# Altium footprint library ALTIUM_VICOR_FASTRAK.PcbLib: 6 footprints
Each footprint in its own frame and in the unit in brackets; x right, y up, seen from the top. Pads: shape width x height; smd on the part's side, far side on the other; paste and mask are expansions set on the pad; w line width, h text height; cw(c..) or ccw(c..) is an arc to the next point about the centre after c.
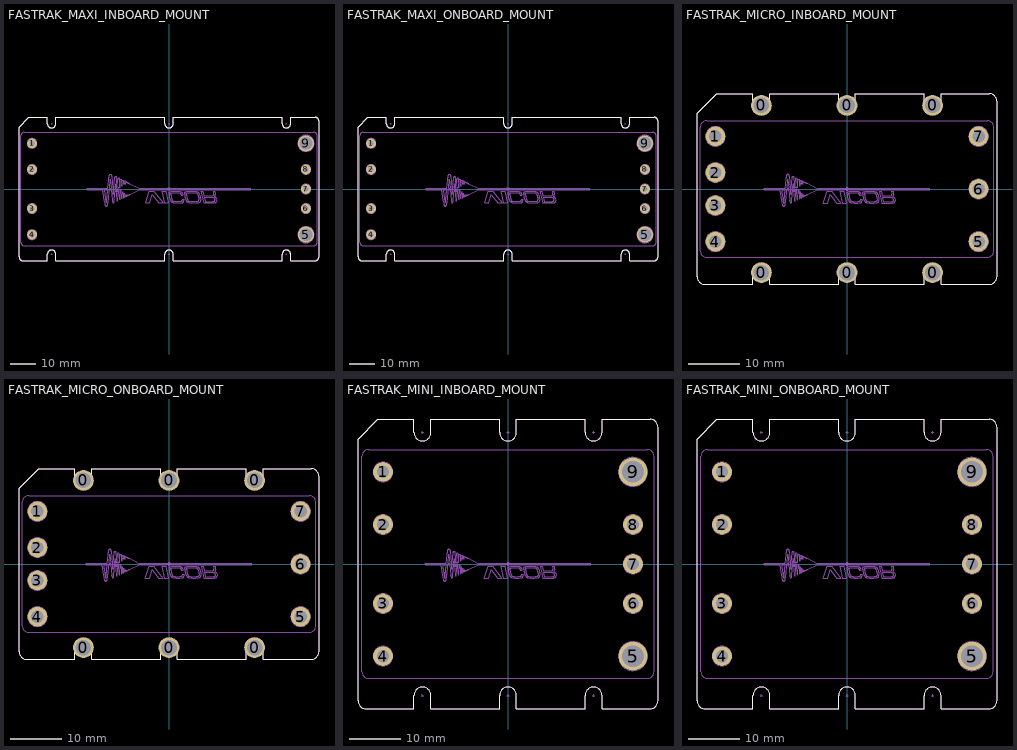
[diagram p0: the footprints below, top view; thin cyan lines are the x and y axes]

## FASTRAK_MAXI_INBOARD_MOUNT [mil]
pads (9):
  round 150 hole 82: 1(-2100,700) 2(-2100,300) 3(-2100,-300) 4(-2100,-700) 6(2100,-300) 7(2100,0) 8(2100,300)
  round 250 hole 194: 5(2100,-700) 9(2100,700)
Top Overlay:
  lines w8: -2300,-1040 ccw(c-2240,-1040) -2240,-1100 -1864.5,-1100 -1864.5,-1000 cw(c-1800,-1000) -1735.5,-1000 -1735.5,-1100 -64.5,-1100 -64.5,-1000 cw(c0,-1000) 64.5,-1000 64.5,-1100 1735.5,-1100 1735.5,-1000 cw(c1800,-1000) 1864.5,-1000 1864.5,-1100 2240,-1100 ccw(c2240,-1040) 2300,-1040 2300,1040 ccw(c2240,1040) 2240,1100 1864.5,1100 1864.5,1000 cw(c1800,1000) 1735.5,1000 1735.5,1100 64.5,1100 64.5,1000 cw(c0,1000) -64.5,1000 -64.5,1100 -1735.5,1100 -1735.5,1000 cw(c-1800,1000) -1864.5,1000 -1864.5,1100 -2150,1100 -2300,950 -2300,-1040
Mechanical 1:
  drawing of 1242 lines, arcs and shapes, not listed
Mechanical 2:
  circle w1: c-2100,700 r40
  circle w1: c-2100,300 r40
  circle w1: c-2100,-300 r40
  circle w1: c-2100,-700 r40
  circle w1: c-2100,-700 r47
  circle w1: c-2100,-300 r47
  circle w1: c-2100,300 r47
  circle w1: c-2100,700 r47
  circle w1: c-2100,-700 r75
  circle w1: c-2100,-300 r75
  circle w1: c-2100,300 r75
  circle w1: c-2100,700 r75
  circle w1: c2100,700 r90
  circle w1: c2100,-700 r90
  circle w1: c2100,300 r40
  circle w1: c2100,0 r40
  circle w1: c2100,-300 r40
  circle w1: c2100,-700 r97
  circle w1: c2100,700 r97
  circle w1: c2100,-300 r47
  circle w1: c2100,0 r47
  circle w1: c2100,300 r47
  circle w1: c2100,-700 r125
  circle w1: c2100,700 r125
  circle w1: c2100,-300 r75
  circle w1: c2100,0 r75
  circle w1: c2100,300 r75
Drill Drawing:
  circle w3: c-2100,700 r47
  circle w3: c-2100,300 r47
  circle w3: c-2100,-300 r47
  circle w3: c-2100,-700 r47
  circle w3: c2100,300 r47
  circle w3: c2100,0 r47
  circle w3: c2100,-300 r47
  circle w3: c2100,700 r97
  circle w3: c2100,-700 r97
  lines w3: -1871,-835 -1853,-835 ; -1871,835 -1853,835 ; -1862,-844 -1862,-826 ; -1862,826 -1862,844 ; 1853,-835 1871,-835 ; 1853,835 1871,835 ; 1862,-844 1862,-826 ; 1862,826 1862,844 ; -1922,-835 ccw(c-1862,-835) -1862,-895 1862,-895 ccw(c1862,-835) 1922,-835 1922,835 ccw(c1862,835) 1862,895 -1862,895 ccw(c-1862,835) -1922,835 -1922,-835

## FASTRAK_MAXI_ONBOARD_MOUNT [mil]
pads (9):
  round 150 hole 82: 1(-2100,700) 2(-2100,300) 3(-2100,-300) 4(-2100,-700) 6(2100,-300) 7(2100,0) 8(2100,300)
  round 250 hole 194: 5(2100,-700) 9(2100,700)
Top Overlay:
  lines w8: -2300,-1040 ccw(c-2240,-1040) -2240,-1100 -1864.5,-1100 -1864.5,-1000 cw(c-1800,-1000) -1735.5,-1000 -1735.5,-1100 -64.5,-1100 -64.5,-1000 cw(c0,-1000) 64.5,-1000 64.5,-1100 1735.5,-1100 1735.5,-1000 cw(c1800,-1000) 1864.5,-1000 1864.5,-1100 2240,-1100 ccw(c2240,-1040) 2300,-1040 2300,1040 ccw(c2240,1040) 2240,1100 1864.5,1100 1864.5,1000 cw(c1800,1000) 1735.5,1000 1735.5,1100 64.5,1100 64.5,1000 cw(c0,1000) -64.5,1000 -64.5,1100 -1735.5,1100 -1735.5,1000 cw(c-1800,1000) -1864.5,1000 -1864.5,1100 -2150,1100 -2300,950 -2300,-1040
Mechanical 1:
  drawing of 1242 lines, arcs and shapes, not listed
Mechanical 2:
  circle w1: c-2100,700 r40
  circle w1: c-2100,300 r40
  circle w1: c-2100,-300 r40
  circle w1: c-2100,-700 r40
  circle w1: c-2100,-700 r47
  circle w1: c-2100,-300 r47
  circle w1: c-2100,300 r47
  circle w1: c-2100,700 r47
  circle w1: c-2100,-700 r75
  circle w1: c-2100,-300 r75
  circle w1: c-2100,300 r75
  circle w1: c-2100,700 r75
  circle w1: c2100,700 r90
  circle w1: c2100,-700 r90
  circle w1: c2100,300 r40
  circle w1: c2100,0 r40
  circle w1: c2100,-300 r40
  circle w1: c2100,-700 r97
  circle w1: c2100,700 r97
  circle w1: c2100,-300 r47
  circle w1: c2100,0 r47
  circle w1: c2100,300 r47
  circle w1: c2100,-700 r125
  circle w1: c2100,700 r125
  circle w1: c2100,-300 r75
  circle w1: c2100,0 r75
  circle w1: c2100,300 r75
Drill Drawing:
  circle w3: c-2100,700 r47
  circle w3: c-2100,300 r47
  circle w3: c-2100,-300 r47
  circle w3: c-2100,-700 r47
  circle w3: c2100,300 r47
  circle w3: c2100,0 r47
  circle w3: c2100,-300 r47
  circle w3: c2100,700 r97
  circle w3: c2100,-700 r97

## FASTRAK_MICRO_INBOARD_MOUNT [mm]
pads (13):
  round 4 hole 3: 0(-16.51,-16.129) 0(-16.51,16.129) 0(0,-16.129) 0(0,16.129) 0(16.51,-16.129) 0(16.51,16.129)
  round 3.81 hole 2.388: 1(-25.4,10.16) 2(-25.4,3.175) 3(-25.4,-3.175) 4(-25.4,-10.16) 5(25.4,-10.16) 6(25.4,0) 7(25.4,10.16)
Top Overlay:
  lines w0.203: -28.956,-16.891 ccw(c-27.432,-16.891) -27.432,-18.415 -18.148,-18.415 -18.148,-16.129 cw(c-16.51,-16.129) -14.872,-16.129 -14.872,-18.415 -1.638,-18.415 -1.638,-16.129 cw(c0,-16.129) 1.638,-16.129 1.638,-18.415 14.872,-18.415 14.872,-16.129 cw(c16.51,-16.129) 18.148,-16.129 18.148,-18.415 27.432,-18.415 ccw(c27.432,-16.891) 28.956,-16.891 28.956,16.891 ccw(c27.432,16.891) 27.432,18.415 18.148,18.415 18.148,16.129 cw(c16.51,16.129) 14.872,16.129 14.872,18.415 1.638,18.415 1.638,16.129 cw(c0,16.129) -1.638,16.129 -1.638,18.415 -14.872,18.415 -14.872,16.129 cw(c-16.51,16.129) -18.148,16.129 -18.148,18.415 -25.146,18.415 -28.956,14.605 -28.956,-16.891
Mechanical 1:
  drawing of 1232 lines, arcs and shapes, not listed
Mechanical 2:
  circle w0.076: c-25.4,-10.16 r1.194
  circle w0.076: c-25.4,-3.175 r1.194
  circle w0.076: c-25.4,3.175 r1.194
  circle w0.076: c-25.4,10.16 r1.194
  circle w0.076: c-25.4,10.16 r1.905
  circle w0.076: c-25.4,3.175 r1.905
  circle w0.076: c-25.4,-3.175 r1.905
  circle w0.076: c-25.4,-10.16 r1.905
  circle w0.076: c-25.4,-3.175 r1.016
  circle w0.076: c-25.4,-10.16 r1.016
  circle w0.076: c-25.4,3.175 r1.016
  circle w0.076: c-25.4,10.16 r1.016
  circle w0.076: c25.4,-10.16 r1.194
  circle w0.076: c25.4,0 r1.194
  circle w0.076: c25.4,10.16 r1.194
  circle w0.076: c25.4,-10.16 r1.905
  circle w0.076: c25.4,0 r1.905
  circle w0.076: c25.4,10.16 r1.905
  circle w0.076: c25.4,-10.16 r1.016
  circle w0.076: c25.4,0 r1.016
  circle w0.076: c25.4,10.16 r1.016
Drill Drawing:
  circle w0.025: c25.4,10.16 r1.194
  circle w0.025: c25.4,0 r1.194
  circle w0.025: c25.4,-10.16 r1.194
  circle w0.025: c-25.4,10.16 r1.194
  circle w0.025: c-25.4,3.175 r1.194
  circle w0.025: c-25.4,-3.175 r1.194
  circle w0.025: c-25.4,-10.16 r1.194
  lines w0.025: -20.726,-12.319 -20.269,-12.319 ; -20.726,12.319 -20.269,12.319 ; -20.498,-12.548 -20.498,-12.09 ; -20.498,12.09 -20.498,12.548 ; 20.269,-12.319 20.726,-12.319 ; 20.269,12.319 20.726,12.319 ; 20.498,-12.548 20.498,-12.09 ; 20.498,12.09 20.498,12.548 ; -22.022,-12.319 ccw(c-20.498,-12.319) -20.498,-13.843 20.498,-13.843 ccw(c20.498,-12.319) 22.022,-12.319 22.022,12.319 ccw(c20.498,12.319) 20.498,13.843 -20.498,13.843 ccw(c-20.498,12.319) -22.022,12.319 -22.022,-12.319

## FASTRAK_MICRO_ONBOARD_MOUNT [mm]
pads (13):
  round 4 hole 3: 0(-16.51,-16.129) 0(-16.51,16.129) 0(0,-16.129) 0(0,16.129) 0(16.51,-16.129) 0(16.51,16.129)
  round 3.81 hole 2.388: 1(-25.4,10.16) 2(-25.4,3.175) 3(-25.4,-3.175) 4(-25.4,-10.16) 5(25.4,-10.16) 6(25.4,0) 7(25.4,10.16)
Top Overlay:
  lines w0.203: -28.956,-16.891 ccw(c-27.432,-16.891) -27.432,-18.415 -18.148,-18.415 -18.148,-16.129 cw(c-16.51,-16.129) -14.872,-16.129 -14.872,-18.415 -1.638,-18.415 -1.638,-16.129 cw(c0,-16.129) 1.638,-16.129 1.638,-18.415 14.872,-18.415 14.872,-16.129 cw(c16.51,-16.129) 18.148,-16.129 18.148,-18.415 27.432,-18.415 ccw(c27.432,-16.891) 28.956,-16.891 28.956,16.891 ccw(c27.432,16.891) 27.432,18.415 18.148,18.415 18.148,16.129 cw(c16.51,16.129) 14.872,16.129 14.872,18.415 1.638,18.415 1.638,16.129 cw(c0,16.129) -1.638,16.129 -1.638,18.415 -14.872,18.415 -14.872,16.129 cw(c-16.51,16.129) -18.148,16.129 -18.148,18.415 -25.146,18.415 -28.956,14.605 -28.956,-16.891
Mechanical 1:
  drawing of 1232 lines, arcs and shapes, not listed
Mechanical 2:
  circle w0.076: c25.4,10.16 r1.016
  circle w0.076: c25.4,0 r1.016
  circle w0.076: c25.4,-10.16 r1.016
  circle w0.076: c25.4,10.16 r1.905
  circle w0.076: c25.4,0 r1.905
  circle w0.076: c25.4,-10.16 r1.905
  circle w0.076: c25.4,10.16 r1.194
  circle w0.076: c25.4,0 r1.194
  circle w0.076: c25.4,-10.16 r1.194
  circle w0.076: c-25.4,10.16 r1.016
  circle w0.076: c-25.4,3.175 r1.016
  circle w0.076: c-25.4,-10.16 r1.016
  circle w0.076: c-25.4,-3.175 r1.016
  circle w0.076: c-25.4,-10.16 r1.905
  circle w0.076: c-25.4,-3.175 r1.905
  circle w0.076: c-25.4,3.175 r1.905
  circle w0.076: c-25.4,10.16 r1.905
  circle w0.076: c-25.4,10.16 r1.194
  circle w0.076: c-25.4,3.175 r1.194
  circle w0.076: c-25.4,-3.175 r1.194
  circle w0.076: c-25.4,-10.16 r1.194
Drill Drawing:
  circle w0.025: c-25.4,-10.16 r1.194
  circle w0.025: c-25.4,-3.175 r1.194
  circle w0.025: c-25.4,3.175 r1.194
  circle w0.025: c-25.4,10.16 r1.194
  circle w0.025: c25.4,-10.16 r1.194
  circle w0.025: c25.4,0 r1.194
  circle w0.025: c25.4,10.16 r1.194

## FASTRAK_MINI_INBOARD_MOUNT [mil]
pads (9):
  round 150 / inner round 60 / far side round 60 hole 94: 1(-950,700) 2(-950,300) 3(-950,-300) 4(-950,-700) 6(950,-300) 7(950,0) 8(950,300)
  round 220 hole 164: 5(950,-700) 9(950,700)
Top Overlay:
  lines w8: -1140,-1040 ccw(c-1080,-1040) -1080,-1100 -714.5,-1100 -714.5,-1000 cw(c-650,-1000) -585.5,-1000 -585.5,-1100 -64.5,-1100 -64.5,-1000 cw(c0,-1000) 64.5,-1000 64.5,-1100 585.5,-1100 585.5,-1000 cw(c650,-1000) 714.5,-1000 714.5,-1100 1080,-1100 ccw(c1080,-1040) 1140,-1040 1140,1040 ccw(c1080,1040) 1080,1100 714.5,1100 714.5,1000 cw(c650,1000) 585.5,1000 585.5,1100 64.5,1100 64.5,1000 cw(c0,1000) -64.5,1000 -64.5,1100 -585.5,1100 -585.5,1000 cw(c-650,1000) -714.5,1000 -714.5,1100 -990,1100 -1140,950 -1140,-1040
Mechanical 1:
  drawing of 1242 lines, arcs and shapes, not listed
Mechanical 2:
  circle w3: c-950,700 r40
  circle w3: c-950,300 r40
  circle w3: c-950,-300 r40
  circle w3: c-950,-700 r40
  circle w3: c-950,-700 r47
  circle w3: c-950,-300 r47
  circle w3: c-950,300 r47
  circle w3: c-950,700 r47
  circle w3: c-950,-700 r75
  circle w3: c-950,-300 r75
  circle w3: c-950,300 r75
  circle w3: c-950,700 r75
  circle w3: c950,-700 r75
  circle w3: c950,700 r75
  circle w3: c950,700 r82
  circle w3: c950,-700 r82
  circle w3: c950,700 r110
  circle w3: c950,-700 r110
  circle w3: c950,-300 r75
  circle w3: c950,0 r75
  circle w3: c950,300 r75
  circle w3: c950,300 r40
  circle w3: c950,0 r40
  circle w3: c950,-300 r40
  circle w3: c950,-300 r47
  circle w3: c950,0 r47
  circle w3: c950,300 r47
Drill Drawing:
  circle w3: c950,300 r47
  circle w3: c950,0 r47
  circle w3: c950,-300 r47
  circle w3: c950,-700 r82
  circle w3: c950,700 r82
  circle w3: c-950,700 r47
  circle w3: c-950,300 r47
  circle w3: c-950,-300 r47
  circle w3: c-950,-700 r47
  lines w3: -736.5,-835 -718.5,-835 ; -736.5,835 -718.5,835 ; -727.5,-844 -727.5,-826 ; -727.5,826 -727.5,844 ; 718.5,-835 736.5,-835 ; 718.5,835 736.5,835 ; 727.5,-844 727.5,-826 ; 727.5,826 727.5,844 ; -787.5,-835 ccw(c-727.5,-835) -727.5,-895 727.5,-895 ccw(c727.5,-835) 787.5,-835 787.5,835 ccw(c727.5,835) 727.5,895 -727.5,895 ccw(c-727.5,835) -787.5,835 -787.5,-835

## FASTRAK_MINI_ONBOARD_MOUNT [mil]
pads (9):
  round 150 / inner round 60 / far side round 60 hole 94: 1(-950,700) 2(-950,300) 3(-950,-300) 4(-950,-700) 6(950,-300) 7(950,0) 8(950,300)
  round 220 hole 164: 5(950,-700) 9(950,700)
Top Overlay:
  lines w8: -1140,-1040 ccw(c-1080,-1040) -1080,-1100 -714.5,-1100 -714.5,-1000 cw(c-650,-1000) -585.5,-1000 -585.5,-1100 -64.5,-1100 -64.5,-1000 cw(c0,-1000) 64.5,-1000 64.5,-1100 585.5,-1100 585.5,-1000 cw(c650,-1000) 714.5,-1000 714.5,-1100 1080,-1100 ccw(c1080,-1040) 1140,-1040 1140,1040 ccw(c1080,1040) 1080,1100 714.5,1100 714.5,1000 cw(c650,1000) 585.5,1000 585.5,1100 64.5,1100 64.5,1000 cw(c0,1000) -64.5,1000 -64.5,1100 -585.5,1100 -585.5,1000 cw(c-650,1000) -714.5,1000 -714.5,1100 -990,1100 -1140,950 -1140,-1040
Mechanical 1:
  drawing of 1242 lines, arcs and shapes, not listed
Mechanical 2:
  circle w3: c950,300 r47
  circle w3: c950,0 r47
  circle w3: c950,-300 r47
  circle w3: c950,-300 r40
  circle w3: c950,0 r40
  circle w3: c950,300 r40
  circle w3: c950,300 r75
  circle w3: c950,0 r75
  circle w3: c950,-300 r75
  circle w3: c950,-700 r110
  circle w3: c950,700 r110
  circle w3: c950,-700 r82
  circle w3: c950,700 r82
  circle w3: c950,700 r75
  circle w3: c950,-700 r75
  circle w3: c-950,700 r75
  circle w3: c-950,300 r75
  circle w3: c-950,-300 r75
  circle w3: c-950,-700 r75
  circle w3: c-950,700 r47
  circle w3: c-950,300 r47
  circle w3: c-950,-300 r47
  circle w3: c-950,-700 r47
  circle w3: c-950,-700 r40
  circle w3: c-950,-300 r40
  circle w3: c-950,300 r40
  circle w3: c-950,700 r40
Drill Drawing:
  circle w3: c-950,-700 r47
  circle w3: c-950,-300 r47
  circle w3: c-950,300 r47
  circle w3: c-950,700 r47
  circle w3: c950,700 r82
  circle w3: c950,-700 r82
  circle w3: c950,-300 r47
  circle w3: c950,0 r47
  circle w3: c950,300 r47